# Altium integrated library Misaka-v1.0.IntLib: 69 symbols (part 1 of 2)
Pins are listed as number, name and electrical type; pins without a type are passive.

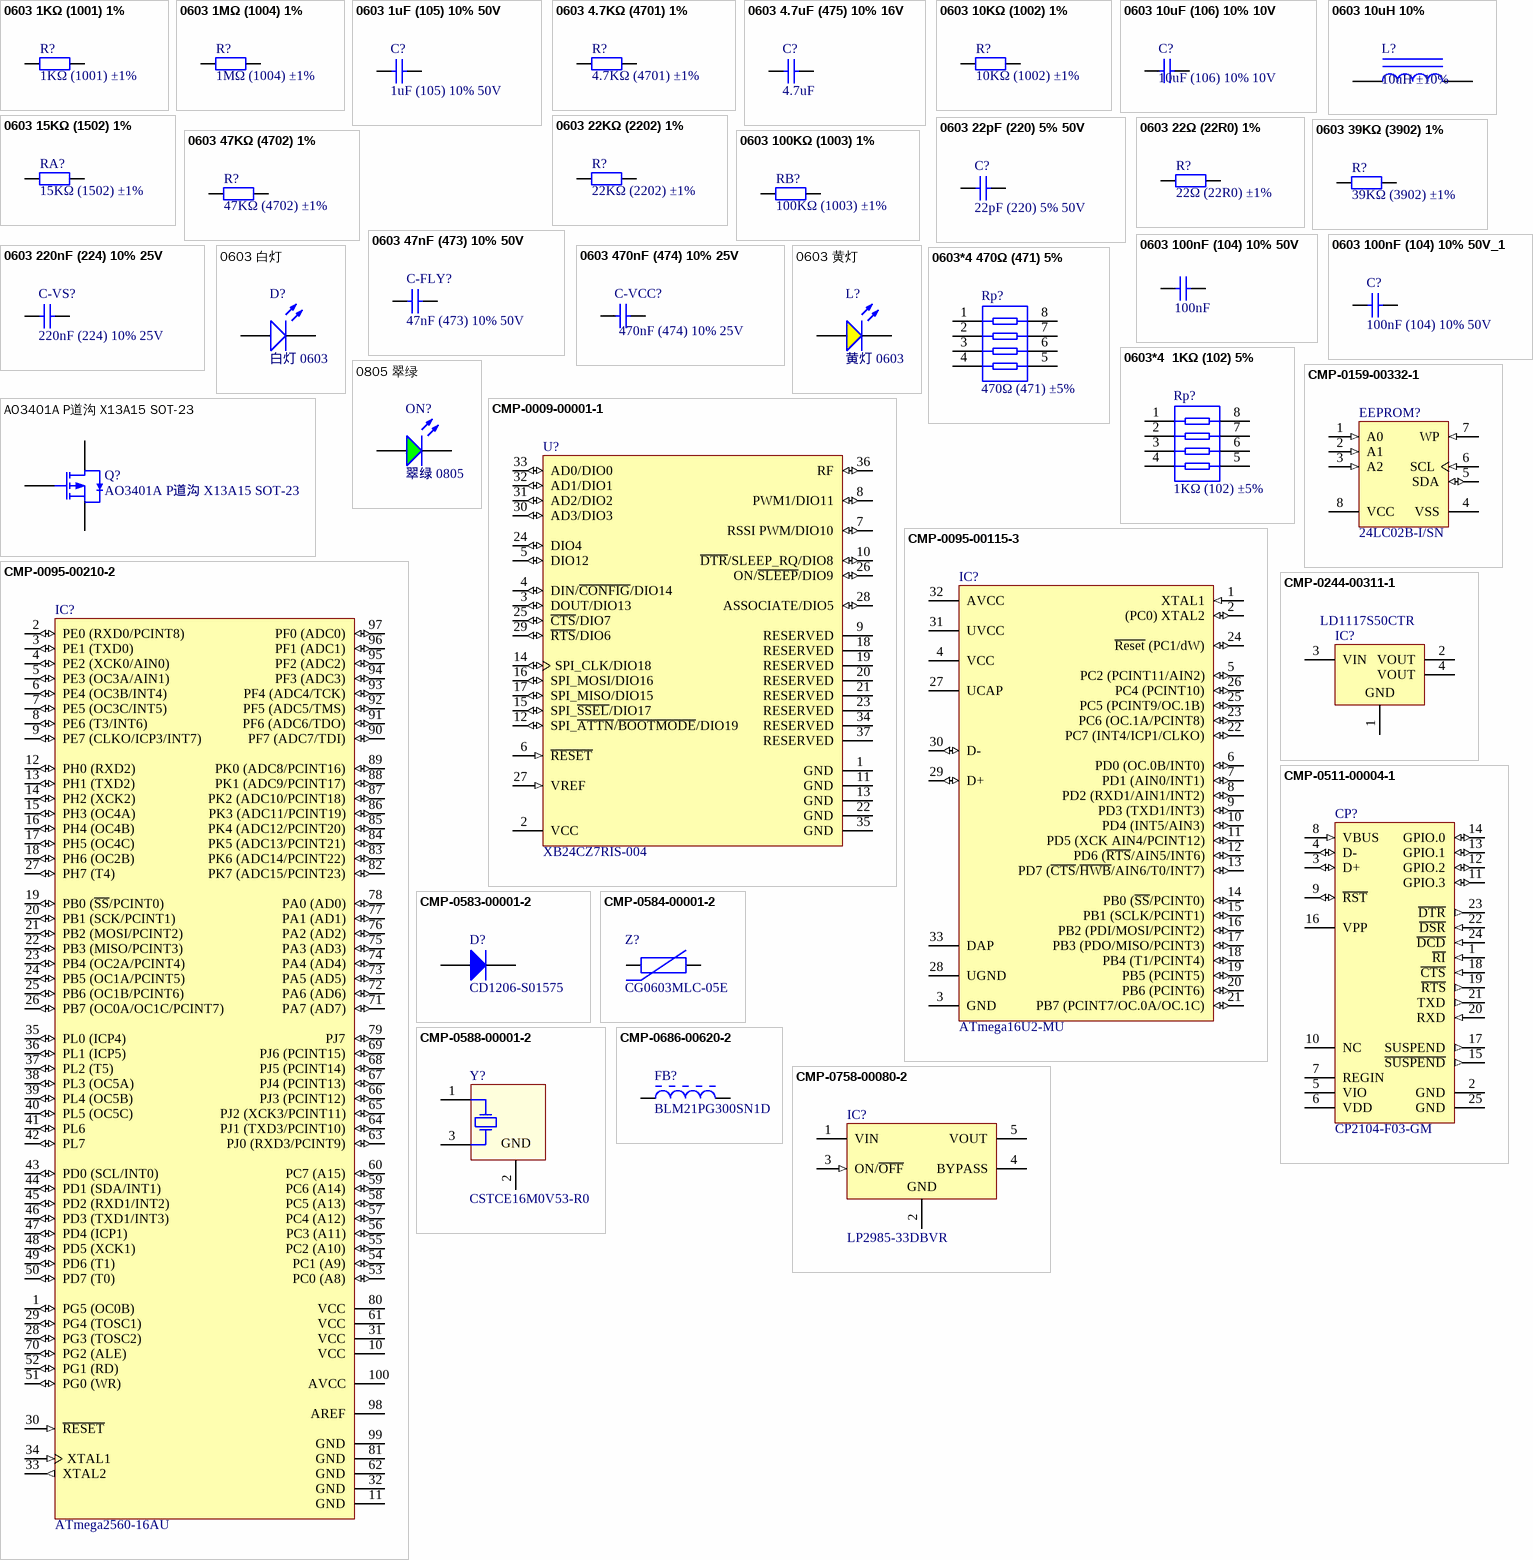
[diagram p0: symbols 0603 1KΩ (1001) 1% to CMP-0758-00080-2]

## 0603 1KΩ (1001) 1%
designator R?, comment 1KΩ (1001) ±1%
贴片电阻; ComponentLink1Description: 供应商链接; ComponentLink1URL: http://www.szlcsc.com/product/details_21904.html; Package: 0603; Supplier: LC; SuppliersPartNumber: C21190
footprint 0603_R
pins: 1, 2

## 0603 1MΩ (1004) 1%
designator R?, comment 1MΩ (1004) ±1%
贴片电阻; ComponentLink1Description: 供应商链接; ComponentLink1URL: http://www.szlcsc.com/product/details_23662.html; Package: 0603; Supplier: LC; SuppliersPartNumber: C22935
footprint 0603_R
pins: 1, 2

## 0603 1uF (105) 10% 50V
designator C?, comment 1uF (105) 10% 50V
贴片电容; ComponentLink1Description: 供应商链接; ComponentLink1URL: http://www.szlcsc.com/product/details_16531.html; Package: 0603; Supplier: LC; SuppliersPartNumber: C15849
footprint 0603_C
pins: 1, 2

## 0603 4.7KΩ (4701) 1%
designator R?, comment 4.7KΩ (4701) ±1%
贴片电阻; ComponentLink1Description: 供应商链接; ComponentLink1URL: http://www.szlcsc.com/product/details_23889.html; Package: 0603; Supplier: LC; SuppliersPartNumber: C23162
footprint 0603_R
pins: 1, 2

## 0603 4.7uF (475) 10% 16V
designator C?, comment 4.7uF
贴片电容; ComponentLink1Description: 供应商链接; ComponentLink1URL: http://www.szlcsc.com/product/details_20375.html; Package: 0603; Supplier: LC; SuppliersPartNumber: C19666
footprint 0603_C
pins: 1, 2

## 0603 10KΩ (1002) 1%
designator R?, comment 10KΩ (1002) ±1%
贴片电阻; ComponentLink1Description: 供应商链接; ComponentLink1URL: http://www.szlcsc.com/product/details_26547.html; Package: 0603; Supplier: LC; SuppliersPartNumber: C25804
footprint 0603_R
pins: 1, 2

## 0603 10uF (106) 10% 10V
designator C?, comment 10uF (106) 10% 10V
贴片电容; ComponentLink1Description: 供应商链接; ComponentLink1URL: http://www.szlcsc.com/product/details_20411.html; Package: 0603; Supplier: LC; SuppliersPartNumber: C19702
footprint 0603_C
pins: 1, 2

## 0603 10uH 10%
designator L?, comment 10uH ±10%
贴片电感; ComponentLink1Description: 供应商链接; ComponentLink1URL: http://www.szlcsc.com/product/details_1387.html; Package: 0603; Supplier: LC; SuppliersPartNumber: C1035
footprint 0603_L
pins: 1, 2

## 0603 15KΩ (1502) 1%
designator RA?, comment 15KΩ (1502) ±1%
贴片电阻; ComponentLink1Description: 供应商链接; ComponentLink1URL: http://www.szlcsc.com/product/details_23536.html; Package: 0603; Supplier: LC; SuppliersPartNumber: C22809
footprint 0603_R
pins: 1, 2

## 0603 22KΩ (2202) 1%
designator R?, comment 22KΩ (2202) ±1%
贴片电阻; ComponentLink1Description: 供应商链接; ComponentLink1URL: http://www.szlcsc.com/product/details_32812.html; Package: 0603; Supplier: LC; SuppliersPartNumber: C31850
footprint 0603_R
pins: 1, 2

## 0603 22pF (220) 5% 50V
designator C?, comment 22pF (220) 5% 50V
贴片电容; ComponentLink1Description: 供应商链接; ComponentLink1URL: http://www.szlcsc.com/product/details_2005.html; Package: 0603; Supplier: LC; SuppliersPartNumber: C1653
footprint 0603_C
pins: 1, 2

## 0603 22Ω (22R0) 1%
designator R?, comment 22Ω (22R0) ±1%
贴片电阻; ComponentLink1Description: 供应商链接; ComponentLink1URL: http://www.szlcsc.com/product/details_24078.html; Package: 0603; Supplier: LC; SuppliersPartNumber: C23345
footprint 0603_R
pins: 1, 2

## 0603 39KΩ (3902) 1%
designator R?, comment 39KΩ (3902) ±1%
贴片电阻; ComponentLink1Description: 供应商链接; ComponentLink1URL: http://www.szlcsc.com/product/details_23880.html; Package: 0603; Supplier: LC; SuppliersPartNumber: C23153
footprint 0603_R
pins: 1, 2

## 0603 47KΩ (4702) 1%
designator R?, comment 47KΩ (4702) ±1%
贴片电阻; ComponentLink1Description: 供应商链接; ComponentLink1URL: http://www.szlcsc.com/product/details_26562.html; Package: 0603; Supplier: LC; SuppliersPartNumber: C25819
footprint 0603_R
pins: 1, 2

## 0603 47nF (473) 10% 50V
designator C-FLY?, comment 47nF (473) 10% 50V
贴片电容; ComponentLink1Description: 供应商链接; ComponentLink1URL: http://www.szlcsc.com/product/details_1974.html; Package: 0603; Supplier: LC; SuppliersPartNumber: C1622
footprint 0603_C
pins: 1, 2

## 0603 100KΩ (1003) 1%
designator RB?, comment 100KΩ (1003) ±1%
贴片电阻; ComponentLink1Description: 供应商链接; ComponentLink1URL: http://www.szlcsc.com/product/details_26546.html; Package: 0603; Supplier: LC; SuppliersPartNumber: C25803
footprint 0603_R
pins: 1, 2

## 0603 100nF (104) 10% 50V
designator C?, comment 100nF
贴片电容; ComponentLink1Description: 供应商链接; ComponentLink1URL: http://www.szlcsc.com/product/details_15331.html; Package: 0603; Supplier: LC; SuppliersPartNumber: C14663
footprint 0603_C
pins: 1, 2

## 0603 100nF (104) 10% 50V_1
designator C?, comment 100nF (104) 10% 50V
贴片电容; ComponentLink1Description: 供应商链接; ComponentLink1URL: http://www.szlcsc.com/product/details_15331.html; Package: 0603; Supplier: LC; SuppliersPartNumber: C14663
footprint 0603_C
pins: 1, 2

## 0603 220nF (224) 10% 25V
designator C-VS?, comment 220nF (224) 10% 25V
贴片电容; ComponentLink1Description: 供应商链接; ComponentLink1URL: http://www.szlcsc.com/product/details_21832.html; Package: 0603; Supplier: LC; SuppliersPartNumber: C21120
footprint 0603_C
pins: 1, 2

## 0603 470nF (474) 10% 25V
designator C-VCC?, comment 470nF (474) 10% 25V
贴片电容; ComponentLink1Description: 供应商链接; ComponentLink1URL: http://www.szlcsc.com/product/details_1975.html; Package: 0603; Supplier: LC; SuppliersPartNumber: C1623
footprint 0603_C
pins: 1, 2

## 0603 白灯
designator D?, comment 白灯 0603
发光二极管; ComponentLink1Description: 供应商链接; ComponentLink1URL: http://www.szlcsc.com/product/details_2663.html; Package: 0603; Supplier: LC; SuppliersPartNumber: C2290
footprint 0603_LED_S1
pins: A, K

## 0603 黄灯
designator L?, comment 黄灯 0603
发光二极管; ComponentLink1Description: 供应商链接; ComponentLink1URL: http://www.szlcsc.com/product/details_73147.html; Package: 0603; Supplier: LC; SuppliersPartNumber: C72038
footprint 0603_LED_S1
pins: A, K

## 0603*4 470Ω (471) 5%
designator Rp?, comment 470Ω (471) ±5%
贴片排阻; ComponentLink1Description: 供应商链接; ComponentLink1URL: http://www.szlcsc.com/product/details_26253.html; Package: 0603*4; Supplier: LC; SuppliersPartNumber: C25510
footprint 0603_Rx4
pins: 1, 2, 3, 4, 5, 6, 7, 8

## 0603*4  1KΩ (102) 5%
designator Rp?, comment 1KΩ (102) ±5%
贴片排阻; ComponentLink1Description: 供应商链接; ComponentLink1URL: http://www.szlcsc.com/product/details_20907.html; Package: 0603*4; Supplier: LC; SuppliersPartNumber: C20197
footprint 0603_Rx4
pins: 1, 2, 3, 4, 5, 6, 7, 8

## 0805 翠绿
designator ON?, comment 翠绿 0805
发光二极管; ComponentLink1Description: 供应商链接; ComponentLink1URL: http://www.szlcsc.com/product/details_2670.html; Package: 0805; Supplier: LC; SuppliersPartNumber: C2297
footprint 0805_LED_S1
pins: A, K

## AO3401A P道沟 X13A15 SOT-23
designator Q?
MOS(场效应管); ComponentLink1Description: 供应商链接; ComponentLink1URL: http://www.szlcsc.com/product/details_15801.html; Package: SOT-23; Supplier: LC; SuppliersPartNumber: C15127
footprint SOT-23-3L (http://www.aosmd.com/res/packaging_information/SOT-23-3L.pdf)
pins: 1 G, 2 S, 3 D

## CMP-0009-00001-1
designator U?, comment XB24CZ7RIS-004
XBee ZB SMT RF Module, 2.4 GHz, 250 kbps, -100 dBm, 2.1 to 3.6 V, 28 mA, 3.1 mW, -40 to 85 degC, 37-Pin Module, RoHS; Manufacturer: Digi international; Operating Current (Receive): 28 mA; Transmit Power Output: 3.1 mW; Indoor/Urban Range: Up to 200 ft. (60 m); RF Data Rate: 250000 bps; Operating Frequency Band: ISM 2.4 to 2.5 GHz; Outdoor RF line-of-sight Range: Up to 4000 ft. (1200 m); Operating Temperature: -40 to 85 degC; Supply Voltage: 2.1 to 3.6 V; ComponentLink3URL: http://ftp1.digi.com/support/documentation/90002002_K.pdf; ROHS: TRUE; PackageDescription: 37-Pin Module, Body 21.996 x 33.782 mm, Pitch 2.007 mm; PackageReference: XB24CZ7RIS-004-Module-37; DatasheetVersion: Sep-13; ComponentLink3Description: Package Specification; Receiver Sensitivity: -100 dBm; ComponentLink2URL: http://ftp1.digi.com/support/documentation/90002002_K.pdf; PartNumber: XB24CZ7RIS-004; Mounting Technology: Surface Mount; ComponentLink1Description: Manufacturer URL; ComponentLink2Description: Datasheet; PackageVersion: 6/9/2013; ComponentLink1URL: http://www.digi.com/; Manufacturer: Digi International; Manufacturer Part Number: XB24CZ7RIS-004
footprint DIGI-XB24CZ7RIS-004-Module-37_V (Module, 37-Leads, Body 21.996x33.782mm, Pitch 2.007mm)
pins: 1 GND (power) "Ground", 2 VCC (power) "Power Supply", 3 DOUT/DIO13 (io) "UART Data Out / GPIO", 4 DIN/~{CONFIG}/DIO14 (io) "UART Data In / GPIO", 5 DIO12 (io) "GPIO", 6 ~{RESET} (in) "Module Reset", 7 RSSI PWM/DIO10 (io) "RX Signal Strength Indicator / GPIO", 8 PWM1/DIO11 (io) "Pulse Width Modulator / GPIO", 9 RESERVED "Do Not Connect", 10 ~{DTR}/SLEEP_RQ/DIO8 (io) "Pin Sleep Control Line / GPIO", 11 GND (power) "Ground", 12 SPI_~{ATTN}/~{BOOTMODE}/DIO19 (io) "Serial Peripheral Interface Attention  Do not tie low on reset", 13 GND (power) "Ground", 14 SPI_CLK/DIO18 (io) "Serial Peripheral Interface Clock / GPIO", 15 SPI_~{SSEL}/DIO17 (io) "Serial Peripheral Interface not Select / GPIO", 16 SPI_MOSI/DIO16 (io) "Serial Peripheral Interface Data In / GPIO", 17 SPI_MISO/DIO15 (io) "Serial Peripheral Interface Data Out / GPIO", 18 RESERVED "Do Not Connect", 19 RESERVED "Do Not Connect", 20 RESERVED "Do Not Connect", 21 RESERVED "Do Not Connect", 22 GND (power) "Ground", 23 RESERVED "Do Not Connect", 24 DIO4 (io) "GPIO", 25 ~{CTS}/DIO7 (io) "Clear to Send Flow Control / GPIO", 26 ON/~{SLEEP}/DIO9 (io) "Module Status Indicator / GPIO", 27 VREF (in) "Not used for EM357. Used for programmable  secondary processor. For compatibility with other  XBee modules, we recommend connecting this pin  to the voltage reference if Analog Sampling is  desired. Otherwise, connect to GND.", 28 ASSOCIATE/DIO5 (io) "Associate Indicator / GPIO", 29 ~{RTS}/DIO6 (io) "Request to Send Flow Control / GPIO", 30 AD3/DIO3 (io) "Analog Input / GPIO", 31 AD2/DIO2 (io) "Analog Input / GPIO", 32 AD1/DIO1 (io) "Analog Input / GPIO", 33 AD0/DIO0 (io) "Analog Input / GPIO", 34 RESERVED "Do Not Connect", 35 GND (power) "Ground", 36 RF (io) "RF IO for RF Pad Variant", 37 RESERVED "Do Not Connect"

## CMP-0095-00115-3
designator IC?, comment ATmega16U2-MU
8-bit AVR Microcontroller, 2.7-5.5V, 16KB Flash, 512 Bytes EEPROM, 512 Bytes SRAM, 32-pin VQFN, Industrial Grade (-40°C to 85°C); Manufacturer: Microchip / Atmel; ComponentLink1Description: Manufacturer URL; RevisionNote: Schematic symbol corrected; ComponentLink3URL: http://www.atmel.com/dyn/resources/prod_documents/7799S.pdf; ComponentLink2URL: http://www.atmel.com/dyn/resources/prod_documents/doc7799.pdf; PackageReference: 32PG; DatasheetVersion: revD, Nov-2010; PartNumber: ATmega16U2-MU; PackageVersion: revA, Oct-2008; Code_JEDEC: MO-220WHHD-2; PackageDescription: 32-Pin Quad Flat No-Lead (QFN) Sawn,  5 x 5 x 1.0 mm Body, Pitch 0.50 mm, 3.60mm Exposed Pad; ComponentLink2Description: ATmega8U2/16U2/32U2 Datasheet; ComponentLink1URL: http://www.atmel.com/; ComponentLink3Description: ATmega8U2/16U2/32U2 Summary; Manufacturer Part Number: ATMEGA16U2-MU
footprint 32PG_N (QFN, 32-Leads, Body 5x5mm, Pitch 0.5mm, Thermal Pad 3.7x3.7mm, IPC Medium Density)
footprint 32PG_L (QFN, 32-Leads, Body 5x5mm, Pitch 0.5mm, Thermal Pad 3.7x3.7mm, IPC High Density)
footprint 32PG_M (QFN, 32-Leads, Body 5x5mm, Pitch 0.5mm, Thermal Pad 3.7x3.7mm, IPC Low Density)
pins: 1 XTAL1 (in), 2 (PC0) XTAL2 (io), 3 GND (power), 4 VCC (power), 5 PC2 (PCINT11/AIN2) (io), 6 PD0 (OC.0B/INT0) (io), 7 PD1 (AIN0/INT1) (io), 8 PD2 (RXD1/AIN1/INT2) (io), 9 PD3 (TXD1/INT3) (io), 10 PD4 (INT5/AIN3) (io), 11 PD5 (XCK AIN4/PCINT12) (io), 12 PD6 (~{RTS}/AIN5/INT6) (io), 13 PD7 (~{CTS}/~{HWB}/AIN6/T0/INT7) (io), 14 PB0 (~{SS}/PCINT0) (io), 15 PB1 (SCLK/PCINT1) (io), 16 PB2 (PDI/MOSI/PCINT2) (io), 17 PB3 (PDO/MISO/PCINT3) (io), 18 PB4 (T1/PCINT4) (io), 19 PB5 (PCINT5) (io), 20 PB6 (PCINT6) (io), 21 PB7 (PCINT7/OC.0A/OC.1C) (io), 22 PC7 (INT4/ICP1/CLKO) (io), 23 PC6 (OC.1A/PCINT8) (io), 24 ~{Reset} (PC1/dW) (io), 25 PC5 (PCINT9/OC.1B) (io), 26 PC4 (PCINT10) (io), 27 UCAP (power), 28 UGND (power), 29 D+ (io), 30 D- (io), 31 UVCC (power), 32 AVCC (power), 33 DAP (power)

## CMP-0095-00210-2
designator IC?, comment ATmega2560-16AU
8-bit AVR Microcontroller, 4.5-5.5V, 16MHz, 256KB Flash, 4KB EEPROM, 8KB SRAM, 86 GPIO pins, 100-pin TQFP, Industrial Grade (-40°C to 85°C), Pb-Free; Manufacturer: Microchip / Atmel; PackageDescription: 100-Pin Thin Profile Plastic Quad Flat Pack (TQFP), 14 x 14 x 1.0 mm Body, 0.5 mm Pitch; ComponentLink1Description: Manufacturer URL; ComponentLink3URL: http://www.atmel.com/dyn/resources/prod_documents/2549S.pdf; RevisionNote: DatasheetVersion & PackageVersion updated. URLs added.; DatasheetVersion: revN, May-2011; ComponentLink2Description: ATmega640/1280/1281/2560/2561 Datasheet; PackageReference: 100A; PackageVersion: revD, Oct-2010; Code_JEDEC: MS-026-AED; ComponentLink1URL: http://www.atmel.com/; ComponentLink2URL: http://www.atmel.com/dyn/resources/prod_documents/doc2549.pdf; ComponentLink3Description: ATmega640/1280/1281/2560/2561 Summary; Manufacturer Part Number: ATMEGA2560-16AU
footprint 100A_M (Thin QFP, 100-Leads, Body 14x14mm, Pitch 0.5mm, IPC Low Density)
footprint 100A_L (Thin QFP, 100-Leads, Body 14x14mm, Pitch 0.5mm, IPC High Density)
footprint 100A_N (Thin QFP, 100-Leads, Body 14x14mm, Pitch 0.5mm, IPC Medium Density)
pins: 1 PG5 (OC0B) (io), 2 PE0 (RXD0/PCINT8) (io), 3 PE1 (TXD0) (io), 4 PE2 (XCK0/AIN0) (io), 5 PE3 (OC3A/AIN1) (io), 6 PE4 (OC3B/INT4) (io), 7 PE5 (OC3C/INT5) (io), 8 PE6 (T3/INT6) (io), 9 PE7 (CLKO/ICP3/INT7) (io), 10 VCC (power), 11 GND (power), 12 PH0 (RXD2) (io), 13 PH1 (TXD2) (io), 14 PH2 (XCK2) (io), 15 PH3 (OC4A) (io), 16 PH4 (OC4B) (io), 17 PH5 (OC4C) (io), 18 PH6 (OC2B) (io), 19 PB0 (~{SS}/PCINT0) (io), 20 PB1 (SCK/PCINT1) (io), 21 PB2 (MOSI/PCINT2) (io), 22 PB3 (MISO/PCINT3) (io), 23 PB4 (OC2A/PCINT4) (io), 24 PB5 (OC1A/PCINT5) (io), 25 PB6 (OC1B/PCINT6) (io), 26 PB7 (OC0A/OC1C/PCINT7) (io), 27 PH7 (T4) (io), 28 PG3 (TOSC2) (io), 29 PG4 (TOSC1) (io), 30 ~{RESET} (in), 31 VCC (power), 32 GND (power), 33 XTAL2 (out), 34 XTAL1 (in), 35 PL0 (ICP4) (io), 36 PL1 (ICP5) (io), 37 PL2 (T5) (io), 38 PL3 (OC5A) (io), 39 PL4 (OC5B) (io), 40 PL5 (OC5C) (io), 41 PL6 (io), 42 PL7 (io), 43 PD0 (SCL/INT0) (io), 44 PD1 (SDA/INT1) (io), 45 PD2 (RXD1/INT2) (io), 46 PD3 (TXD1/INT3) (io), 47 PD4 (ICP1) (io), 48 PD5 (XCK1) (io), 49 PD6 (T1) (io), 50 PD7 (T0) (io), 51 PG0 (WR) (io), 52 PG1 (RD) (io), 53 PC0 (A8) (io), 54 PC1 (A9) (io), 55 PC2 (A10) (io), 56 PC3 (A11) (io), 57 PC4 (A12) (io), 58 PC5 (A13) (io), 59 PC6 (A14) (io), 60 PC7 (A15) (io), 61 VCC (power), 62 GND (power), 63 PJ0 (RXD3/PCINT9) (io), 64 PJ1 (TXD3/PCINT10) (io), 65 PJ2 (XCK3/PCINT11) (io), 66 PJ3 (PCINT12) (io), 67 PJ4 (PCINT13) (io), 68 PJ5 (PCINT14) (io), 69 PJ6 (PCINT15) (io), 70 PG2 (ALE) (io), 71 PA7 (AD7) (io), 72 PA6 (AD6) (io), 73 PA5 (AD5) (io), 74 PA4 (AD4) (io), 75 PA3 (AD3) (io), 76 PA2 (AD2) (io), 77 PA1 (AD1) (io), 78 PA0 (AD0) (io), 79 PJ7 (io), 80 VCC (power), 81 GND (power), 82 PK7 (ADC15/PCINT23) (io), 83 PK6 (ADC14/PCINT22) (io), 84 PK5 (ADC13/PCINT21) (io), 85 PK4 (ADC12/PCINT20) (io), 86 PK3 (ADC11/PCINT19) (io), 87 PK2 (ADC10/PCINT18) (io), 88 PK1 (ADC9/PCINT17) (io), 89 PK0 (ADC8/PCINT16) (io), 90 PF7 (ADC7/TDI) (io), 91 PF6 (ADC6/TDO) (io), 92 PF5 (ADC5/TMS) (io), 93 PF4 (ADC4/TCK) (io), 94 PF3 (ADC3) (io), 95 PF2 (ADC2) (io), 96 PF1 (ADC1) (io), 97 PF0 (ADC0) (io), 98 AREF (power), 99 GND (power), 100 AVCC (power)

## CMP-0159-00332-1
designator EEPROM?, comment 24LC02B-I/SN
2Kbit, 400kHz, 2.5V, I2C Serial EEPROM, 8-Pin SOIC 150mil, Industrial Temperature; Manufacturer: Microchip; PackageReference: SOIC-SN8; Code_JEDEC: MS-012; DatasheetVersion: revJ, Feb-2009; Code_IPC: SOIC127P600-8; PackageVersion: revBB, Aug-2009; PackageDescription: 8-Lead Plastic Small Outline (SN) - Narrow, 3.90mm Body [SOIC]; Manufacturer Part Number: 24LC02B-I/SN
footprint SOIC-SN8_N (SOIC, 8-Leads, Body 4.9x3.8mm, Pitch 1.27mm, IPC Medium Density)
footprint SOIC-SN8_L (SOIC, 8-Leads, Body 4.9x3.8mm, Pitch 1.27mm, IPC High Density)
footprint SOIC-SN8_M (SOIC, 8-Leads, Body 4.9x3.8mm, Pitch 1.27mm, IPC Low Density)
pins: 1 A0 (in), 2 A1 (in), 3 A2 (in), 4 VSS (power), 5 SDA (io), 6 SCL (in), 7 WP (in), 8 VCC (power)

## CMP-0244-00311-1
designator IC?, comment LD1117S50CTR
Low-dropout linear regulator 5V -LM1117IMPX-5.0 / Fixed Low Drop Positive Voltage Regulator, 5V, 4-Pin SOT-223, Tape and Reel; Manufacturer: STMicroelectronics; PackageReference: SOT-223; PackageVersion: 2010; ComponentLink2URL: http://www.st.com/internet/com/TECHNICAL_RESOURCES/TECHNICAL_LITERATURE/DATASHEET/CD00000544.pdf; ComponentLink1URL: http://www.st.com; ComponentLink2Description: Datasheet; DatasheetVersion: 1/11/2011; ComponentLink1Description: Manufacturer URL; PackageDescription: 4-Pin SOT-223 Package, 6.5 x 3.5 mm Body, 2.3 mm Pitch, 7 mm Lead Span; Manufacturer Part Number: LD1117S50CTR
footprint SOT-223_N (SOT223, 4-Leads, Body 6.5x3.5mm, Pitch 2.3mm, Lead Span 7mm, IPC Medium Density)
footprint SOT-223_L (SOT223, 4-Leads, Body 6.5x3.5mm, Pitch 2.3mm, Lead Span 7mm, IPC High Density)
footprint SOT-223_M (SOT223, 4-Leads, Body 6.5x3.5mm, Pitch 2.3mm, Lead Span 7mm, IPC Low Density)
pins: 1 GND (power), 2 VOUT (power), 3 VIN (power), 4 VOUT (power)

## CMP-0511-00004-1
designator CP?, comment CP2104-F03-GM
Single-Chip USB to UART Bridge, 4 Dig I/O Pins, Internal Oscillator, 1024 Bytes EEPROM, -40 to 85 degC, 24-pin QFN; Manufacturer: Silicon Labs; Sub-Family: USB Bridges; Internal Oscillator: TRUE; Mounting Technology: Surface Mount; ComponentLink3URL: http://www.silabs.com/Support%20Documents/TechnicalDocs/C8051F93x-92x.pdf; DatasheetVersion: Rev. 1.0; ComponentLink1URL: http://www.silabs.com/; Code_IPC: J-STD-020; ComponentLink2URL: http://www.silabs.com/Support%20Documents/TechnicalDocs/cp2104.pdf; Code_JEDEC: MO-220; PackageReference: QFN-24; ComponentLink3Description: Package Specification; PartNumber: CP2104-F03-GM; ComponentLink1Description: Manufacturer URL; ComponentLink2Description: Datasheet; EEPROM: 1024 Bytes; PackageDescription: 24-Pin Quad-Flat No-Leads Package, Body 4 x 4 mm, Pitch 0.5 mm; Manufacturer Part Number: CP2104-F03-GM
footprint SLAB-QFN-24-2675x2675TP_M (QFN, 24-Leads, Body 4x4mm, Pitch 0.5mm, Thermal Pad 2.68x2.68mm, IPC Low Density)
footprint SLAB-QFN-24-2675x2675TP_L (QFN, 24-Leads, Body 4x4mm, Pitch 0.5mm, Thermal Pad 2.68x2.68mm, IPC High Density)
footprint SLAB-QFN-24-2675x2675TP_N (QFN, 24-Leads, Body 4x4mm, Pitch 0.5mm, Thermal Pad 2.68x2.68mm, IPC Medium Density)
pins: 1 ~{RI} (in) "Ring Indicator control input (active low)", 2 GND (power) "Ground. Must be tied to ground.", 3 D+ (io) "USB D+", 4 D- (io) "USB D-", 5 VIO (power) "I/O Supply Voltage Input.", 6 VDD (power) "Power Supply Voltage Input. Voltage Regulator Output. See Section 9.", 7 REGIN (power) "5 V Regulator Input. This pin is the input to the on-chip voltage regulator.", 8 VBUS (in) "VBUS Sense Input. This pin should be connected to the VBUS signal of a USB network.", 9 ~{RST} (io) "Device Reset. Open-drain output of internal POR or VDD monitor. An external source can initiate a system reset by driving this pin low for the time specified in Table 4.", 10 NC "This pin should be left unconnected or tied to VIO.", 11 GPIO.3 (io) "User-configurable input or output.", 12 GPIO.2 (io) "User-configurable input or output.", 13 GPIO.1 (io) "User-configurable input or output.", 14 GPIO.0 (io) "User-configurable input or output.", 15 ~{SUSPEND} (out) "This pin is logic low when the CP2104 is in the USB Suspend state.", 16 VPP "Connect a 4.7 uF capacitor between this pin and ground to support ROM programming via USB interface.", 17 SUSPEND (out) "This pin is logic high when the CP2104 is in the USB Suspend state.", 18 ~{CTS} (in) "Clear to Send control input (active low)", 19 ~{RTS} (out) "Ready to Send control output (active low)", 20 RXD (in) "Asynchronous data input (UART Receive)", 21 TXD (out) "Asynchronous data output (UART Transmit)", 22 ~{DSR} (in) "Data Set Ready control input (active low)", 23 ~{DTR} (out) "Data Terminal Ready control output (active low)", 24 ~{DCD} (in) "Data Carrier Detect control input (active low)", 25 GND (power)

## CMP-0583-00001-2
designator D?, comment CD1206-S01575
75 V Small Signal Switching Diode, 150 mA, 2.5 uA, 1026 Molded Package, RoHS, Tape and Reel; Manufacturer: Bourns; Reverse Voltage: 75 V; Average Forward Current: 150 mA; Reverse Current (Max.): 2.5 uA; Capacitance Between Terminals (Max.): 3 pF; Reverse Recovery Time (Max.): 4 nS; Forward Voltage (Max.): 1.00 V; Packing: Tape and Reel; Mounting Technology: Surface Mount; DatasheetVersion: Rev. 06/11; ComponentLink2URL: http://www.bourns.com/data/global/pdfs/CD1206_S01575.pdf; PackageReference: CD1206-S01575-2; RoHS: TRUE; ComponentLink1URL: http://www.bourns.com/; ComponentLink1Description: Manufacturer URL; ComponentLink3Description: Package Specification; ComponentLink3URL: http://www.bourns.com/data/global/pdfs/CD1206_S01575.pdf; ComponentLink2Description: Datasheet; PackageDescription: 2-Pin SMD, Body 3.2 x 1.5 mm; PartNumber: CD1206-S01575; Manufacturer Part Number: CD1206-S01575
footprint BOUR-CD1206-S01575-2_L (Molded Diode, 2-Leads, Body 3.4x1.7mm, IPC High Density)
footprint BOUR-CD1206-S01575-2_N (Molded Diode, 2-Leads, Body 3.4x1.7mm, IPC Medium Density)
footprint BOUR-CD1206-S01575-2_M (Molded Diode, 2-Leads, Body 3.4x1.7mm, IPC Low Density)
pins: 1 A, 2 K

## CMP-0584-00001-2
designator Z?, comment CG0603MLC-05E
ESD Protector, 5 V Supply, -40 to 85 degC, 1.6 x 0.8 x 0.55 mm SMD, RoHS, Tape and Reel; Manufacturer: Bourns; VC: 20 V; VT: 150 V; RT: 1 ns; VDC: 5 V; CO: 0.5 pF; PartNumber: CG0603MLC-05E; ComponentLink1Description: Manufacturer URL; ComponentLink1URL: http://www.bourns.com/; Packing: Tape and Reel; Mounting Technology: Surface Mount; ComponentLink2Description: Datasheet; RoHS: TRUE; Operating Temperature: -40 to 85 degC; DatasheetVersion: Rev. S; PackageDescription: 2-Pin SMD, Body 1.6 x 0.8 mm, Pitch 1.52 mm; PackageReference: CG0603-2; ComponentLink2URL: http://www.bourns.com/data/global/pdfs/MLC.pdf; Manufacturer Part Number: CG0603MLC-05E
footprint BOUR-CG0603-2_V (SMD, 2-Leads, Body 1.6x0.8mm, Pitch 1.52mm)
pins: 1, 2

## CMP-0588-00001-2
designator Y?, comment CSTCE16M0V53-R0
Ceramic Resonator, 16 MHz with Built-in Capacitance, Thickness Expander Mode, Initial Frequency Tolerance +/- 0.5%, Load Capacity 15 pF, -20 to 80 degC, 3.2 x 1.3 x 1 mm SMD, RoHS, Reel; Manufacturer: Murata; Oscillating Frequency: 16 MHz; Load Capacity: 15 pF; PackageDescription: 3-Pin SMD, Body 3.2 x 1.3 mm, Pitch 0.95 mm; Mounting Technology: Surface Mount; ComponentLink1URL: http://www.murata.com/; RoHS: TRUE; Packing: Reel; Initial Frequency Tolerance: +/- 0.5%; PartNumber: CSTCE16M0V53-R0; ComponentLink2Description: Datasheet; DatasheetVersion: Rev. P16E-22; PackageReference: CSTCE_V-3; Operating Temperature Range: -20 to 80 degC; ComponentLink2URL: http://www.murata.com/products/catalog/pdf/p16e.pdf; ComponentLink1Description: Manufacturer URL; Initial Tolerance: +/- 0.5%; Manufacturer Part Number: CSTCE16M0V53-R0
footprint MURA-CSTCE_V-3_V (SMD, 3-Leads, Body 3.2x1.3mm, Pitch 0.95mm)
pins: 1 C1, 2 GND (power), 3 C2

## CMP-0686-00620-2
designator FB?, comment BLM21PG300SN1D
Chip Ferrite Bead for Power Lines, 30 Ohm, 4000 mA, -55 to 125 degC, 2 x 1.25 x 1.05 mm SMD, Tape and Reel; Manufacturer: Murata; DC Resistance: 0.014 Ohm Max.; Rated Current: 4000 mA; Impedance (at 100 MHz): 30 Ohm Typ.; ComponentLink3Description: Package Specification; Packing: Tape and Reel; ComponentLink3URL: http://www.murata.com/products/catalog/pdf/c31e.pdf; PackageDescription: 2-Pin Chip, Body 2 x 1.25 mm; DatasheetVersion: 08/2013; ComponentLink2Description: Datasheet; ComponentLink1Description: Manufacturer URL; PartNumber: BLM21PG300SN1D; PackageReference: BLM21_H1050-2; Mounting Technology: Surface Mount; ComponentLink1URL: http://www.murata.com/; Operating Temperature Range: -55 to 125 degC; ComponentLink2URL: http://www.murata.com/products/catalog/pdf/c31e.pdf; Manufacturer Part Number: BLM21PG300SN1D
footprint MURA-BLM21-B40-CHIP-2_V2 (Chip Ferrite Bead, 2-Leads, Body 2x1.25mm, Height 1.05mm, 35um Land Pad Thickness, 3 to 4A Rated Current)
footprint MURA-BLM21-B40-CHIP-2_V3 (Chip Ferrite Bead, 2-Leads, Body 2x1.25mm, Height 1.05mm, 70um Land Pad Thickness, 3 to 4A Rated Current)
footprint MURA-BLM21-B40-CHIP-2_V1 (Chip Ferrite Bead, 2-Leads, Body 2x1.25mm, Height 1.05mm, 18um Land Pad Thickness, 3 to 4A Rated Current)
pins: 1, 2

## CMP-0758-00080-2
designator IC?, comment LP2985-33DBVR
Single Output Low Noise LDO, 150 mA, Fixed 3.3 V Output, 1.5% Tolerance, 2.2 to 16 V Input, Low IQ, 5-Pin SOT-23 (DBV), -40 to 125 degC, Green (RoHS & no Sb/Br), Tape and Reel; Manufacturer: Texas Instruments; Vdo (Typ) (mV): 280; Accuracy (%): 1.5; Output Options: Fixed Output; Fixed Output Options (V): 3.3; Iout (Max) (A): 0.15; Iq (Typ) (mA): 0.85; ComponentLink3Description: Package Specification; Packing: Tape and Reel; ComponentLink3URL: http://www.ti.com/litv/pdf/mpds018j; Vin (V): 2.2 to 16; Mounting Technology: Surface Mount; ComponentLink1URL: http://www.ti.com/; PartNumber: LP2985-33DBVR; PackageReference: DBV0005A; ComponentLink2URL: http://www.ti.com/lit/ds/symlink/lp2985-50.pdf; RoHS: TRUE; ComponentLink2Description: Datasheet; PackageVersion: 4073253-4/L; Operating Temperature Range (degC): -40 to 125; DatasheetVersion: SLVS522N; ComponentLink1Description: Manufacturer URL; PackageDescription: 5-Pin Plastic Small Outline, Body 2.9 x 1.6 mm, Pitch 0.95 mm; Manufacturer Part Number: LP2985-33DBVR
footprint DBV0005A_M (SOT23, 5-Leads, Body 3.05x1.75mm, Pitch 0.95mm, IPC Low Density)
footprint DBV0005A_N (SOT23, 5-Leads, Body 3.05x1.75mm, Pitch 0.95mm, IPC Medium Density)
footprint DBV0005A_L (SOT23, 5-Leads, Body 3.05x1.75mm, Pitch 0.95mm, IPC High Density)
pins: 1 VIN (power), 2 GND (power), 3 ON/~{OFF} (in), 4 BYPASS, 5 VOUT (power)

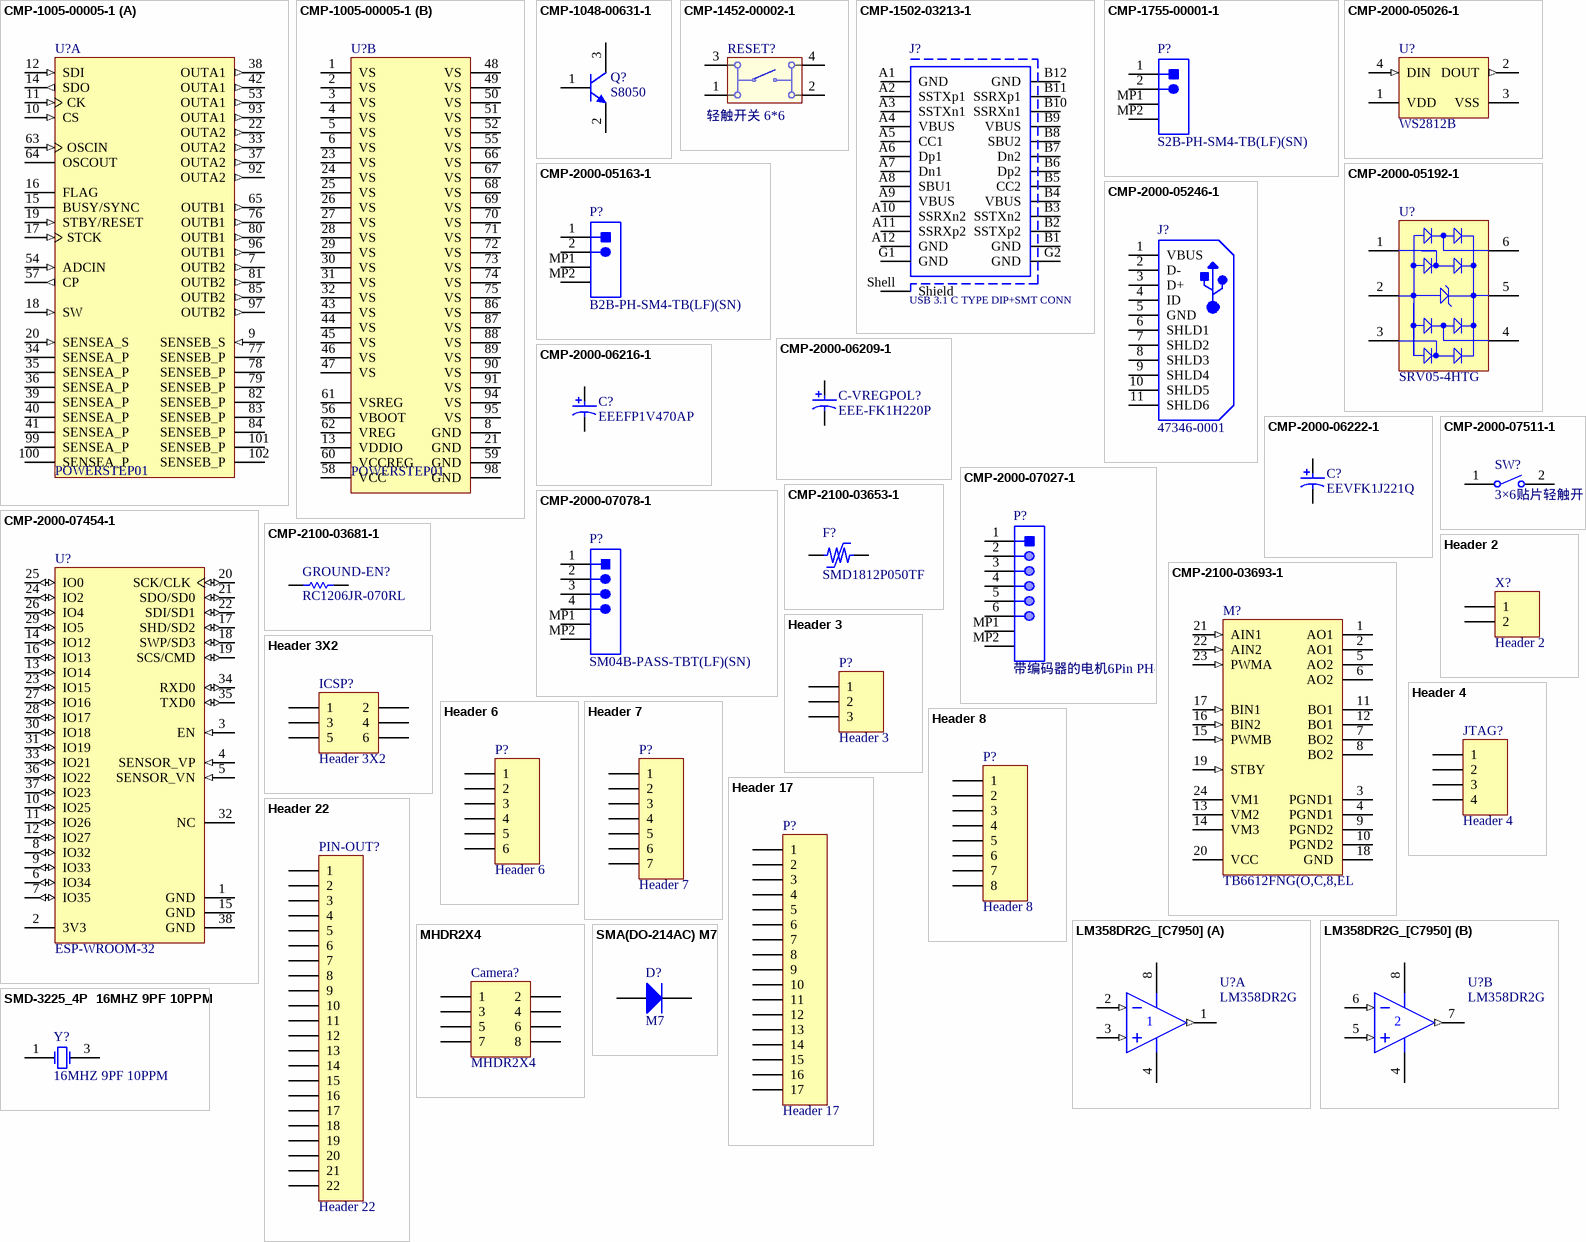
[diagram p1: symbols CMP-1005-00005-1 to SMD-3225_4P  16MHZ 9PF 10PPM]

## CMP-1005-00005-1
designator U?, comment POWERSTEP01
System-In-Package Integrating Microstepping Controller and 10 A Power MOSFET, 7.5 to 85 V, -40 to 150 degC, 102-Pin QFN (VFQFN), RoHS, Tray; Manufacturer: STMicroelectronics; Iboot: 2.6 mA Typ.; RpumpHS: 10 Ohm Typ.; RDS(on)@125 degC: 23 MOhm Typ.; RoHS: TRUE; ComponentLink2Description: Datasheet; Temperature Range: -40 to 150 degC; Packing: Tray; Operating Voltage: 7.5 to 85 V; ComponentLink2URL: http://www.st.com/st-web-ui/static/active/en/resource/technical/document/datasheet/DM00090983.pdf; Mounting Technology: Surface Mount; ComponentLink3Description: Package Specification; PartNumber: POWERSTEP01; PackageDescription: 102-Pin Quad Flat Non-Leaded Package, Body 11 x 14 mm; ComponentLink3URL: http://www.st.com/st-web-ui/static/active/en/resource/technical/document/datasheet/DM00090983.pdf; ComponentLink1Description: Manufacturer URL; DatasheetVersion: Rev. 4; ComponentLink1URL: www.st.com; Manufacturer Part Number: POWERSTEP01
footprint STM-VFQFPN-102_V (QFN, 102-Leads, Body 11x14mm, Height 1mm)
part A pins: 7 OUTB2 (out) "Half-bridge B2 output", 9 SENSEB_S (in) "Current control comparator input", 10 CS (in) "Chip select input pin for serial interface", 11 CK (in) "Serial interface clock", 12 SDI (in) "Data input pin for serial interface", 14 SDO (out) "Data output pin for serial interface", 15 BUSY/SYNC (oc) "By default BUSY/SYNC pin is forced low when the deviceis performing a command.The pin can be programmed in order to generatea synchronization signal.", 16 FLAG (oc) "Status flag pin. An internal open-drain transistor can pullthe pin to GND when a programmed alarm conditionoccurs (step loss, OCD, thermal pre-warning or shutdown,UVLO, wrong command, non performable command).", 17 STCK (in) "Step clock input.", 18 SW (in) "External switch input pin", 19 STBY/RESET (in) "Standby and reset pin. LOW logic level puts the device instandby mode and reset logic.If not used, should be connected to VREG", 20 SENSEA_S (in) "Current control comparator input", 22 OUTA2 (out) "Half-bridge A2 output", 33 OUTA2 (out) "Half-bridge A2 output", 34 SENSEA_P "Tail of full bridge A (source of the respective low-side MOSFETs)", 35 SENSEA_P "Tail of full bridge A (source of the respective low-side MOSFETs)", 36 SENSEA_P "Tail of full bridge A (source of the respective low-side MOSFETs)", 37 OUTA2 (out) "Half-bridge A2 output", 38 OUTA1 (out) "Half-bridge A1 output", 39 SENSEA_P "Tail of full bridge A (source of the respective low-side MOSFETs)", 40 SENSEA_P "Tail of full bridge A (source of the respective low-side MOSFETs)", 41 SENSEA_P "Tail of full bridge A (source of the respective low-side MOSFETs)", 42 OUTA1 (out) "Half-bridge A1 output", 53 OUTA1 (out) "Half-bridge A1 output", 54 ADCIN (in) "Internal analog to digital converter input", 57 CP (out) "Charge pump oscillator output", 63 OSCIN (in) "Oscillator pin 1. To connect an external oscillator or clock source.", 64 OSCOUT "Oscillator pin 2. To connect an external oscillator. When the internal oscillator is used this pin can supply a 2/4/8/16 MHz clock.", 65 OUTB1 (out) "Half-bridge B1 output", 76 OUTB1 (out) "Half-bridge B1 output", 77 SENSEB_P "Tail of full bridge B (source of the respective low-side MOSFETs)", 78 SENSEB_P "Tail of full bridge B (source of the respective low-side MOSFETs)", 79 SENSEB_P "Tail of full bridge B (source of the respective low-side MOSFETs)", 80 OUTB1 (out) "Half-bridge B1 output", 81 OUTB2 (out) "Half-bridge B2 output", 82 SENSEB_P "Tail of full bridge B (source of the respective low-side MOSFETs)", 83 SENSEB_P "Tail of full bridge B (source of the respective low-side MOSFETs)", 84 SENSEB_P "Tail of full bridge B (source of the respective low-side MOSFETs)", 85 OUTB2 (out) "Half-bridge B2 output", 92 OUTA2 (out) "Half-bridge A2 output", 93 OUTA1 (out) "Half-bridge A1 output", 96 OUTB1 (out) "Half-bridge B1 output", 97 OUTB2 (out) "Half-bridge B2 output", 99 SENSEA_P "Tail of full bridge A (source of the respective low-side MOSFETs)", 100 SENSEA_P "Tail of full bridge A (source of the respective low-side MOSFETs)", 101 SENSEB_P "Tail of full bridge B (source of the respective low-side MOSFETs)", 102 SENSEB_P "Tail of full bridge B (source of the respective low-side MOSFETs)"
part B pins: 1 VS (power) "Motor supply voltage (drain of the high-side MOSFETs)", 2 VS (power) "Motor supply voltage (drain of the high-side MOSFETs)", 3 VS (power) "Motor supply voltage (drain of the high-side MOSFETs)", 4 VS (power) "Motor supply voltage (drain of the high-side MOSFETs)", 5 VS (power) "Motor supply voltage (drain of the high-side MOSFETs)", 6 VS (power) "Motor supply voltage (drain of the high-side MOSFETs)", 8 GND (power) "Ground", 13 VDDIO (power) "Logic interface supply voltage", 21 GND (power) "Ground", 23 VS (power) "Motor supply voltage (drain of the high-side MOSFETs)", 24 VS (power) "Motor supply voltage (drain of the high-side MOSFETs)", 25 VS (power) "Motor supply voltage (drain of the high-side MOSFETs)", 26 VS (power) "Motor supply voltage (drain of the high-side MOSFETs)", 27 VS (power) "Motor supply voltage (drain of the high-side MOSFETs)", 28 VS (power) "Motor supply voltage (drain of the high-side MOSFETs)", 29 VS (power) "Motor supply voltage (drain of the high-side MOSFETs)", 30 VS (power) "Motor supply voltage (drain of the high-side MOSFETs)", 31 VS (power) "Motor supply voltage (drain of the high-side MOSFETs)", 32 VS (power) "Motor supply voltage (drain of the high-side MOSFETs)", 43 VS (power) "Motor supply voltage (drain of the high-side MOSFETs)", 44 VS (power) "Motor supply voltage (drain of the high-side MOSFETs)", 45 VS (power) "Motor supply voltage (drain of the high-side MOSFETs)", 46 VS (power) "Motor supply voltage (drain of the high-side MOSFETs)", 47 VS (power) "Motor supply voltage (drain of the high-side MOSFETs)", 48 VS (power) "Motor supply voltage (drain of the high-side MOSFETs)", 49 VS (power) "Motor supply voltage (drain of the high-side MOSFETs)", 50 VS (power) "Motor supply voltage (drain of the high-side MOSFETs)", 51 VS (power) "Motor supply voltage (drain of the high-side MOSFETs)", 52 VS (power) "Motor supply voltage (drain of the high-side MOSFETs)", 55 VS (power) "Motor supply voltage", 56 VBOOT (power) "Bootstrap voltage needed for driving the high-side power DMOS of both bridges (A and B).", 58 VCC (power) "Gate driver supply voltage", 59 GND (power) "Ground", 60 VCCREG (power) "Internal VREG voltage regulator supply voltage", 61 VSREG (power) "Internal VCC voltage regulator supply voltage", 62 VREG (power) "Logic supply voltage", 66 VS (power) "Motor supply voltage (drain of the high-side MOSFETs)", 67 VS (power) "Motor supply voltage (drain of the high-side MOSFETs)", 68 VS (power) "Motor supply voltage (drain of the high-side MOSFETs)", 69 VS (power) "Motor supply voltage (drain of the high-side MOSFETs)", 70 VS (power) "Motor supply voltage (drain of the high-side MOSFETs)", 71 VS (power) "Motor supply voltage (drain of the high-side MOSFETs)", 72 VS (power) "Motor supply voltage (drain of the high-side MOSFETs)", 73 VS (power) "Motor supply voltage (drain of the high-side MOSFETs)", 74 VS (power) "Motor supply voltage (drain of the high-side MOSFETs)", 75 VS (power) "Motor supply voltage (drain of the high-side MOSFETs)", 86 VS (power) "Motor supply voltage (drain of the high-side MOSFETs)", 87 VS (power) "Motor supply voltage (drain of the high-side MOSFETs)", 88 VS (power) "Motor supply voltage (drain of the high-side MOSFETs)", 89 VS (power) "Motor supply voltage (drain of the high-side MOSFETs)", 90 VS (power) "Motor supply voltage (drain of the high-side MOSFETs)", 91 VS (power) "Motor supply voltage (drain of the high-side MOSFETs)", 94 VS (power) "Motor supply voltage (drain of the high-side MOSFETs)", 95 VS (power) "Motor supply voltage (drain of the high-side MOSFETs)", 98 GND (power) "Ground"

## CMP-1048-00631-1
designator Q?, comment S8050
General Purpose Transistor, NPN Silicon, 3-Pin SOT-23, Pb-Free, Tape and Reel / MMBT3904LT1G; Manufacturer: On Semiconductor; IC Continuous (A): 0.2; fT Min (MHz): 300; ComponentLink2Description: Datasheet; Polarity: NPN; PackageDescription: 3-Pin Small Outline Transistor, Body 2.92 x 1.3 mm, Pitch 0.95 mm; ComponentLink2URL: http://www.onsemi.cn/pub_link/Collateral/MMBT3904LT1-D.PDF; DatasheetVersion: Rev. 12; Mounting Technology: Surface Mount; PartNumber: MMBT3904LT1G; ComponentLink1URL: http://www.onsemi.com/; ComponentLink3Description: Package Specification; ComponentLink1Description: Manufacturer URL; PackageVersion: Rev. AP, 11/2009; PackageReference: SOT-23-3-318-08; Packing: Tape and Reel; ComponentLink3URL: http://www.onsemi.cn/pub_link/Collateral/318-08.PDF; RoHS: TRUE; Manufacturer: ON Semiconductor; Manufacturer Part Number: MMBT3904LT1G
footprint ONSC-SOT-23-3-318-08_V (SOT23, 3-Leads, Body 2.92x1.3mm, Pitch 0.95mm)
pins: 1 B, 2 E, 3 C

## CMP-1452-00002-1
designator RESET?, comment 轻触开关 6*6
WS-TASV SMD Tact Switch 6X6 mm; PartNumber: 430152043836; Manufacturer: Wuerth Elektronik; Manufacturer: Wurth Electronics; NoPins: 04; ComponentLink2URL: http://katalog.we-online.de/em/datasheet/4301x2.pdf; ComponentLink1URL: http://www.we-online.com; ComponentLink2Description: Datasheet; ComponentLink1Description: Manufacturer URL; PackageReference: 430152043836; Manufacturer Part Number: 430152043836
footprint 430152043836 (6*6mm vertical type, SMD, height 4.3mm, salmon actuator, 360gf, T&R)
pins: 1, 2, 3, 4

## CMP-1502-03213-1
designator J?, comment USB 3.1 C TYPE DIP+SMT CONN
USB 3.1 Type C Receptacle WR-COM, Horizontal, SMT / THT; Part Number: 632723100011; Manufacturer: Wurth Elektronik; Manufacturer: Wurth Electronics; Working Voltage: 20VDC; Rated Current: 5A; Contact Resistance: 30mOhm; Operating Temperature: -40to105degC; Publisher: WurthElektronik; Gender: Receptacle; Mounting Technology: SMT/THT; Datasheet URL: https://katalog.we-online.de/em/datasheet/632723x00011%282%29.pdf; Connector Type: USB3.1TypeC; Manufacturer URL: https://item.szlcsc.com/292999.html; Orientation: Horizontal; Package Reference: 632723100011; Packaging: TapeandReel; Manufacturer Part Number: 632723100011
footprint 632723100011 (USB 3.1 Type C Receptacle Horizontal THR)
pins: A1 GND, A2 SSTXp1, A3 SSTXn1, A4 VBUS, A5 CC1, A6 Dp1, A7 Dn1, A8 SBU1, A9 VBUS, A10 SSRXn2, A11 SSRXp2, A12 GND, B1 GND, B2 SSTXp2, B3 SSTXn2, B4 VBUS, B5 CC2, B6 Dp2, B7 Dn2, B8 SBU2, B9 VBUS, B10 SSRXn1, B11 SSRXp1, B12 GND, G1 GND, G2 GND, Shell Shield

## CMP-1755-00001-1
designator P?, comment S2B-PH-SM4-TB(LF)(SN)
Male Header, Pitch 2 mm, 1 x 2 Position, Height 5.5 mm, -25 to 85 degC, RoHS, Tape and Reel; Manufacturer: JST; Manufacturer Part Number: S2BPHSM4TBLFSN; Current Rating: 3 A; ComponentLink1URL: http://www.jst.com/home2.html; Radiation Hardening: No; RoHSCompliant: True; Mount: Through Hole; Contact Material: Bronze; Package Quantity: 100; Width: 2.34 mm; DatasheetVersion: Dec-12; Height: 8.13 mm; Max Operating Temperature: 105degC; ComponentLink2Description: Datasheet; Lead Pitch: 0.1 inch; Contact Finish: Lead; Packaging: Bulk; Colour: Black; Contact Plating: Tin; Min Operating Temperature: -65degC; ComponentLink1Description: Manufacturer URL; PackageReference: S2B-PH-SM4-TB(LF)(SN)-2; PackageDescription: Male Header, Pitch 2 mm, 1 x 2 Position, Height 5.5 mm; ComponentLink2URL: http://www.jst-mfg.com/product/pdf/eng/ePH.pdf; Pins: 40; Length: 101.19 mm
footprint JST- S2B-PH-SM4-TB(LF)(SN)-2_V (SMD, 2-Leads, Body 7.9x7.6mm, Pitch 2mm)
pins: 1, 2, MP1, MP2

## CMP-2000-05026-1
designator U?, comment WS2812B
Intelligent Control LED Integrated Light Source, 3.5 to 5.3 V, -25 to 80 degC, 4-Pin SMD, RoHS, Tape and Reel / 1655; Manufacturer: Adafruit-Industries-LLC; Manufacturer: Adafruit Industries; Manufacturer Part Number: 1655; Number of LEDs: 10; Configuration: Discrete; Utilized LED: WS2812(5050); Datasheet URL: http://datasheet.octopart.com/ADA1655-Adafruit-Industries-datasheet-32028139.pdf; Series: Neopixel; Interface: -; Package Description: 4-Pin Surface Mount Device, Body 5 x 5 mm; Color: Red,Green,Blue(RGB); Category: Optoelectronics; Controller Type: -; Package Reference: 1655; Manufacturer URL: https://www.adafruit.com/; Mounting Type: SurfaceMount; Datasheet Version: May-13; Size / Dimension: 5.00mmLx5.00mmW; Family: Addressable,Specialty
footprint ADA-RGB-1655_V (SMD, 4-Leads, Body 5x5mm)
pins: 1 VDD (power), 2 DOUT (out), 3 VSS (power), 4 DIN (in)

## CMP-2000-05163-1
designator P?, comment B2B-PH-SM4-TB(LF)(SN)
Male Header, Pitch 2 mm, 1 x 2 Position, Height 6.6 mm, RoHS, Tape and Reel; Manufacturer: JST; No of Positions: 2; Style/Orientation: StraightHeader/Plug; Pitch: 2mm; Datasheet URL: https://ciiva.com/datasheet-click-26894756?src=ciiva&sig=90099765; Termination: Crimp; Manufacturer URL: http://www.jst.com/home2.html; Type: ShroudedHeader; Datasheet Version: Dec-12; Manufacturer Part Number: B2B-PH-SM4-TB(LF)(SN)
footprint JST-B2B-PH-SM4-TB-2_V (SMD, 2-Leads, Body 7.95x5mm, Pitch 2mm)
pins: 1, 2, MP1, MP2

## CMP-2000-05192-1
designator U?, comment SRV05-4HTG
Diode Array, 6 V, 10 A, -40 to 125 degC, 6-Pin SOT-23, RoHS, Tape and Reel; Polarity: Bidirectional; Brand: Littelfuse; Clamping Voltage: 15V; Peak Surge Current: 10A; Working Voltage: 6V; Pd - Power Dissipation: 150W; Number of Channels: 4Channel; Mounting Style: SMD/SMT; Termination Style: SMD/SMT; Datasheet Version: May-15; Height: 1.45mm; Manufacturer: Littelfuse; Manufacturer URL: http://www.littelfuse.com/; Package URL: http://www.vishay.com/docs/28729/28729.pdf; RoHS: True; Package Reference: SOT23-6; Type: TVSDiodeArraysLowCapacitanceESDProtection; Product Category: TVSDiodeArrays; Datasheet URL: http://www.littelfuse.com/~/media/electronics/datasheets/tvs_diode_arrays/littelfuse_tvs_diode_array_srv05_datasheet.pdf.pdf; Package / Case: SOT-23-6; Minimum Operating Temperature: -40C; Maximum Operating Temperature: +85C; Width: 3mm; Package Description: 6-Pin Small Outline Transistor, Body 2.9 x 1.625 mm, Pitch 0.95 mm; Length: 3mm; Series: SRV05; Packaging: Reel; Manufacturer Part Number: SRV05-4HTG
footprint LFUS-SOT23-6_V (SOT23, 6-Leads, Body 3x1.75mm, Pitch 0.95mm)
pins: 1 I/O 1, 2 GND (power), 3 I/O 2, 4 I/O 3, 5 VCC (power), 6 I/O 4

## CMP-2000-05246-1
designator J?, comment 47346-0001
Micro-USB B Receptacle with Flange, -30 to 85 degC, 5-Pin SMD, RoHS, Tape and Reel; Manufacturer: Molex; Number of Contacts: 5; Body Orientation: RightAngle; Maximum Voltage Rating: 30VAC; Pitch: 0.65mm; Maximum Current Rating: 1.8/ContactA; Number of Ports: 1; Gender: RCP; Operating Temperature: -30to85C; Part No: 47346-0001; Color: Black; Termination Method: Solder; Contact Plating: GoldOverPalladiumNickelOverNickel; Dimension: 7.8x5.43x2.94mm; Number of Terminals: 5; Datasheet Version: Dec-13; Datasheet URL: https://datasheet.ciiva.com/30075/304740473460001-io-nectors-30075527.pdf; Contact Material: CopperAlloy; RoHS: Yes; Housing Material: LiquidCrystalPolymer; Manufacturer URL: http://www.molex.com/; Packaging: EmbossedTapeandReel; Mounting: SurfaceMount; Type: MicroUSBTypeB; Manufacturer Part Number: 47346-0001
footprint MOLX-47346-0001-5_V (SMD, 5-Leads, Body 7.5x5mm, Pitch 0.65mm)
pins: 1 VBUS, 2 D-, 3 D+, 4 ID, 5 GND, 6 SHLD1, 7 SHLD2, 8 SHLD3, 9 SHLD4, 10 SHLD5, 11 SHLD6

## CMP-2000-06209-1
designator C-VREGPOL?, comment EEE-FK1H220P
Cap Aluminum Lytic, 22 uF, +/- 20%, 6.3 to 100 V, -55 to 105 degC, 2-Pin SMD, RoHS, Tape and Reel; Manufacturer: Panasonic; Manufacturer Part Number: EEEFK1H220P; Capacitance: 22µF; Rated Voltage: 50V; Lifetime@Temperature: 2000Hrs@105°C; Ripple Current: 165mA; Impedance: 0.88O; Operating Temp Range: -55to+105°C; Package Reference: EEE-FK1H220P; Case Size/Dimension: Ø6.3x5.8mm; Manufacturer URL: http://www.panasonic.com/; Datasheet URL: http://www.mouser.com/ds/2/315/ABA0000CE120-68386.pdf; Mounting Technology: SurfaceMount; Datasheet Version: 03/2014; Package Description: 2-Pin Aluminum Electrolytic Capacitor, Base 6.6 x 6.6 mm, Height 6.10 mm; Operating Temp-Max: 105°C; Series: FK; Type: Can
footprint PNSC-EEE-FK1H220P_L (CAPAE, 2-Leads, Base 6.6x6.6mm, IPC High Density)
footprint PNSC-EEE-FK1H220P_M (CAPAE, 2-Leads, Base 6.6x6.6mm, IPC Low Density)
footprint PNSC-EEE-FK1H220P_N (CAPAE, 2-Leads, Base 6.6x6.6mm, IPC Medium Density)
pins: 1, 2

## CMP-2000-06216-1
designator C?, comment EEEFP1V470AP
Aluminum Electrolytic Capacitor, 47 uF, +/- 20%, 35 V, 2-Pin SMD (Size Code D), -55 to 105 degC, RoHS, Tape and Reel; Manufacturer: Panasonic; Lifetime@Temperature: 2000Hrs@105°C; Capacitance: 47µF; Type: Can; Rated Voltage: 35V; Ripple Current: 300mA; ESR (Equivalent Series Resistance): 0.26O; Package Reference: FP-V-D; Package Description: 2-Pin Electrolytic Aluminum Capacitor, Body 6.6 x 6.6 mm; Datasheet URL: http://industrial.panasonic.com/cdbs/www-data/pdf/RDE0000/ABA0000C1184.pdf; Series: FP; Operating Temp Range: -55to+105°C; Operating Temp-Max: 105°C; Datasheet Version: 03/2016; Manufacturer URL: http://www.panasonic.com/; Package URL: http://industrial.panasonic.com/cdbs/www-data/pdf/RDE0000/DME0000COL48.pdf; Case Size/Dimension: Ø6.3x5.8mm; Mounting Technology: SurfaceMount; Manufacturer Part Number: EEEFP1V470AP
footprint PNSC-FP-V-D_V (CAPAE, 2-Leads, Body 6.80x6.80mm)
pins: 1, 2

## CMP-2000-06222-1
designator C?, comment EEVFK1J221Q
Aluminum Electrolytic Capacitor, 220 uF, +/- 20%, 63 V, 2-Pin SMD (Size Code H13), -55 to 105 degC, RoHS, Tape and Reel; Manufacturer: Panasonic; Impedance: 0.16ohm; Life Time @ Temperature: 2000hours@105°C; Product Range: PANASONIC-?????FK; Voltage Rating: 63V; External Length / Height: 13.5mm; Ripple Current Temperature: 105°C; Ripple Current Frequency: 100kHz; Ripple Current AC: 800mA; Power Factor: 0.08; Power Factor Frequency: 120Hz; AE Capacitor Case: RadialCan-SMD; Capacitance: 220µF; Operating Lifetime: 2000h; SVHC: NoSVHC(16-Dec-2013); Diameter: 12.5mm; Package Description: 2-Pin Electrolytic Aluminum Capacitor, Body 13.5 x 13.5 mm; Height: 13.5mm; Package URL: http://industrial.panasonic.com/cdbs/www-data/pdf/RDE0000/DME0000COL48.pdf; Lifetime @ Temperature: 2000hours@105°C; Series: FK; Mounting Technology: SurfaceMount; Datasheet Version: 03/2016; Package / Case: H13; Voltage Rating V DC: 63V; Capacitance Tolerance ±: ±20%; Tolerance +: 20%; Capacitance Tolerance: ±20%; Package Reference: FK-V-H13; Datasheet URL: https://industrial.panasonic.com/cdbs/www-data/pdf/RDE0000/ABA0000C1181.pdf; Operating Temperature Range: -55°Cto+105°C; Manufacturer URL: http://www.panasonic.com/; Operating Temperature Min: -55°C; Capacitor Terminals: SMD; Packaging: CutTape; Operating Temperature Max: 105°C; Tolerance -: 20%; Operating life Time: 2000h; Capacitor Case Style: SMD; Manufacturer Part Number: EEVFK1J221Q
footprint PNSC-FK-V-H13_V (CAPAE, 2-Leads, Body 13.70x13.70mm)
pins: 1, 2

## CMP-2000-07027-1
designator P?, comment 带编码器的电机6Pin PH-2
Male Header, Pitch 2 mm, 1 x 6 Position, Height 5.5 mm, -25 to 85 degC / S6B-PH-SM4-TB(LF)(SN); Manufacturer: JST; Pitch: 2mm; Style/Orientation: RightAngleHeader/Plug; No of Positions: 6; Package Reference: S6B-PH-SM4-TB(LF)(SN); Type: ShroudedHeader; Package Description: Male Header, Pitch 2 mm, 1 x 6 Position, Height 5.5 mm; Mounting Technology: SurfaceMount; Datasheet Version: 11/2008; Termination: Solder; Datasheet URL: https://datasheet.ciiva.com/11747/0900766b80df0d9d-11747278.pdf; Manufacturer URL: http://www.jst.com/home2.html; Manufacturer Part Number: S6B-PH-SM4-TB(LF)(SN)
footprint JST-S6B-PH-SM4-TB(LF)(SN)_V (SMD, 2-Leads, Body 15.9x7.6mm, Pitch 2mm)
pins: 1, 2, 3, 4, 5, 6, MP1, MP2

## CMP-2000-07078-1
designator P?, comment SM04B-PASS-TBT(LF)(SN)
Male Header, Pitch 2 mm, 1 x 4 Position, Height 5.7 mm, -25 to 85 degC, RoHS, Tape and Reel; Manufacturer: Japan Solderless Terminals; Manufacturer: JST; Pitch: 2mm; No of Positions: 4; Style/Orientation: RightAngleHeader/Plug; Termination: Crimp; Datasheet URL: http://www.jst-mfg.com/product/pdf/eng/ePA-F.pdf; Datasheet Version: 03/2012; Mounting Technology: SurfaceMount; Package Reference: SM04B-PASS-TBT(LF)(SN); Manufacturer URL: http://www.jst-mfg.com/index_e.php; Type: WiretoBoard; Package Description: Male Header, Pitch 2 mm, 1 x 4 Position, Height 5.7 mm; Manufacturer Part Number: SM04B-PASS-TBT(LF)(SN)
footprint JST-SM04B-PASS-TBT(LF)(SN)_V (Header, 4-Leads, Body 12x8.9mm, Pitch 2mm)
pins: 1, 2, 3, 4, MP1, MP2

## CMP-2000-07454-1
designator U?, comment ESP-WROOM-32
Espressif System, 2.7 to 3.6 V, -40 to 85 degC, 38-Pin SMD; Manufacturer: Olimex; Package Description: 38-Pin Surface Mount Device, Body 18 x 25.5 mm, Pitch 1.27 mm; Manufacturer URL: https://www.olimex.com; RoHSCompliant: false; Mounting Technology: SurfaceMount; Datasheet Version: Rev. 2.1, 09/2017; Datasheet URL: http://www.espressif.com/sites/default/files/documentation/esp-wroom-32_datasheet_en.pdf; Package Reference: ESP-WROOM-32; Manufacturer Part Number: ESP-WROOM-32
footprint OLMX-ESP-WROOM-32 (SMD, 38-Leads, Body 18x25.5mm, Pitch 1.27mm)
pins: 1 GND (power) "Ground", 2 3V3 (power) "Power supply.", 3 EN (in) "Chip-enable signal. Active high.", 4 SENSOR_VP (in) "GPIO36, SENSOR_VP, ADC_H, ADC1_CH0, RTC_GPIO0", 5 SENSOR_VN (in) "GPIO39, SENSOR_VN, ADC1_CH3, ADC_H, RTC_GPIO3", 6 IO34 (io) "GPIO34, ADC1_CH6, RTC_GPIO4", 7 IO35 (io) "GPIO35, ADC1_CH7, RTC_GPIO5", 8 IO32 (io) "GPIO32, XTAL_32K_P (32.768 kHz crystal oscillator input), ADC1_CH4, TOUCH9, RTC_GPIO9", 9 IO33 (io) "GPIO33, XTAL_32K_N (32.768 kHz crystal oscillator output), ADC1_CH5, TOUCH8, RTC_GPIO8", 10 IO25 (io) "GPIO25, DAC_1, ADC2_CH8, RTC_GPIO6, EMAC_RXD0", 11 IO26 (io) "GPIO26, DAC_2, ADC2_CH9, RTC_GPIO7, EMAC_RXD1", 12 IO27 (io) "GPIO27, ADC2_CH7, TOUCH7, RTC_GPIO17, EMAC_RX_DV", 13 IO14 (io) "GPIO14, ADC2_CH6, TOUCH6, RTC_GPIO16, MTMS, HSPICLK, HS2_CLK, SD_CLK, EMAC_TXD2", 14 IO12 (io) "GPIO12, ADC2_CH5, TOUCH5, RTC_GPIO15, MTDI, HSPIQ, HS2_DATA2, SD_DATA2, EMAC_TXD3", 15 GND (power) "Ground", 16 IO13 (io) "GPIO13, ADC2_CH4, TOUCH4, RTC_GPIO14, MTCK, HSPID, HS2_DATA3, SD_DATA3, EMAC_RX_ER", 17 SHD/SD2 (io) "GPIO9, SD_DATA2, SPIHD, HS1_DATA2, U1RXD", 18 SWP/SD3 (io) "GPIO10, SD_DATA3, SPIWP, HS1_DATA3, U1TXD", 19 SCS/CMD (io) "GPIO11, SD_CMD, SPICS0, HS1_CMD, U1RTS", 20 SCK/CLK (io) "GPIO6, SD_CLK, SPICLK, HS1_CLK, U1CTS", 21 SDO/SD0 (io) "GPIO7, SD_DATA0, SPIQ, HS1_DATA0, U2RTS", 22 SDI/SD1 (io) "GPIO8, SD_DATA1, SPID, HS1_DATA1, U2CTS", 23 IO15 (io) "GPIO15, ADC2_CH3, TOUCH3, MTDO, HSPICS0, RTC_GPIO13, HS2_CMD, SD_CMD, EMAC_RXD3", 24 IO2 (io) "GPIO2, ADC2_CH2, TOUCH2, RTC_GPIO12, HSPIWP, HS2_DATA0, SD_DATA0", 25 IO0 (io) "GPIO0, ADC2_CH1, TOUCH1, RTC_GPIO11, CLK_OUT1, EMAC_TX_CLK", 26 IO4 (io) "GPIO4, ADC2_CH0, TOUCH0, RTC_GPIO10, HSPIHD, HS2_DATA1, SD_DATA1, EMAC_TX_ER", 27 IO16 (io) "GPIO16, HS1_DATA4, U2RXD, EMAC_CLK_OUT", 28 IO17 (io) "GPIO17, HS1_DATA5, U2TXD, EMAC_CLK_OUT_180", 29 IO5 (io) "GPIO5, VSPICS0, HS1_DATA6, EMAC_RX_CLK", 30 IO18 (io) "GPIO18, VSPICLK, HS1_DATA7", 31 IO19 (io) "GPIO19, VSPIQ, U0CTS, EMAC_TXD0", 32 NC "Not connected", 33 IO21 (io) "GPIO21, VSPIHD, EMAC_TX_EN", 34 RXD0 (io) "GPIO3, U0RXD, CLK_OUT2", 35 TXD0 (io) "GPIO1, U0TXD, CLK_OUT3, EMAC_RXD2", 36 IO22 (io) "GPIO22, VSPIWP, U0RTS, EMAC_TXD1", 37 IO23 (io) "GPIO23, VSPID, HS1_STROBE", 38 GND (power) "Ground"